# Altium footprint library FRM18A.PcbLib: 1 footprints
Each footprint in its own frame and in the unit in brackets; x right, y up, seen from the top. Pads: shape width x height; smd on the part's side, far side on the other; paste and mask are expansions set on the pad; w line width, h text height; cw(c..) or ccw(c..) is an arc to the next point about the centre after c.
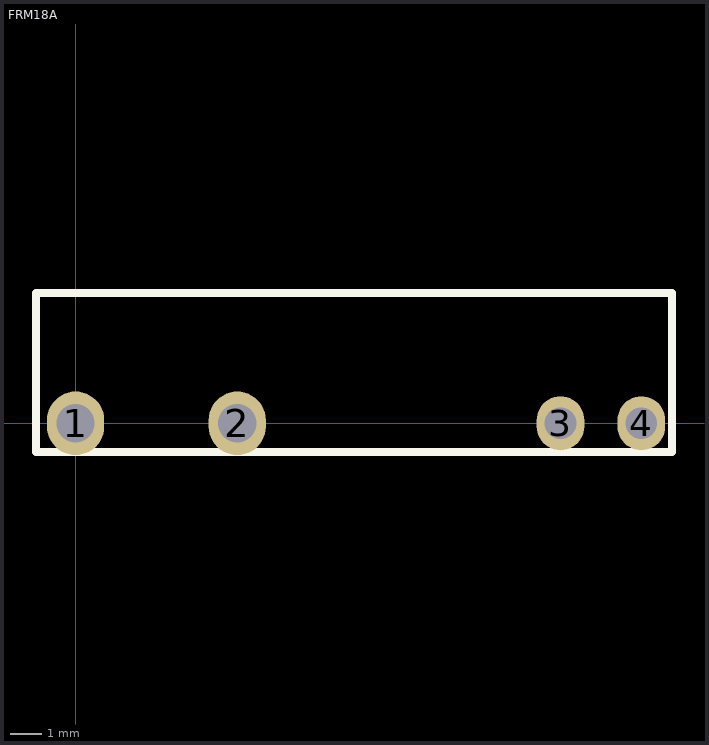
[diagram p0: the footprint, top view; thin cyan lines are the x and y axes]

## FRM18A [mm] "FRM18A SPST-NO Slim relay"
height 12.5
pads (4):
  oval 1.8x2 hole 1.2: 1(0,0) 2(5.08,0)
  oval 1.5x1.7 hole 1: 3(15.24,0) 4(17.78,0)
Top Overlay:
  lines w0.254: -1.25,-0.9 -1.25,4.1 18.75,4.1 18.75,-0.9 -1.25,-0.9
Mechanical 1:
  circle w0.254: c0,0 r0.4
  circle w0.254: c5.08,0 r0.4
  circle w0.254: c15.24,0 r0.4
  circle w0.254: c17.78,0 r0.4
3D body: height 12.5, standoff 0, extent -1.377,-1.027 18.877,4.227
3D body: height 3, standoff -2, extent -0.399,-0.399 0.399,0.399
3D body: height 3, standoff -2, extent 4.681,-0.399 5.479,0.399
3D body: height 3, standoff -2, extent 14.841,-0.399 15.639,0.399
3D body: height 3, standoff -2, extent 17.381,-0.399 18.179,0.399